# Altium integrated library NSC Switcher.IntLib: 2027 symbols (part 19 of 54)
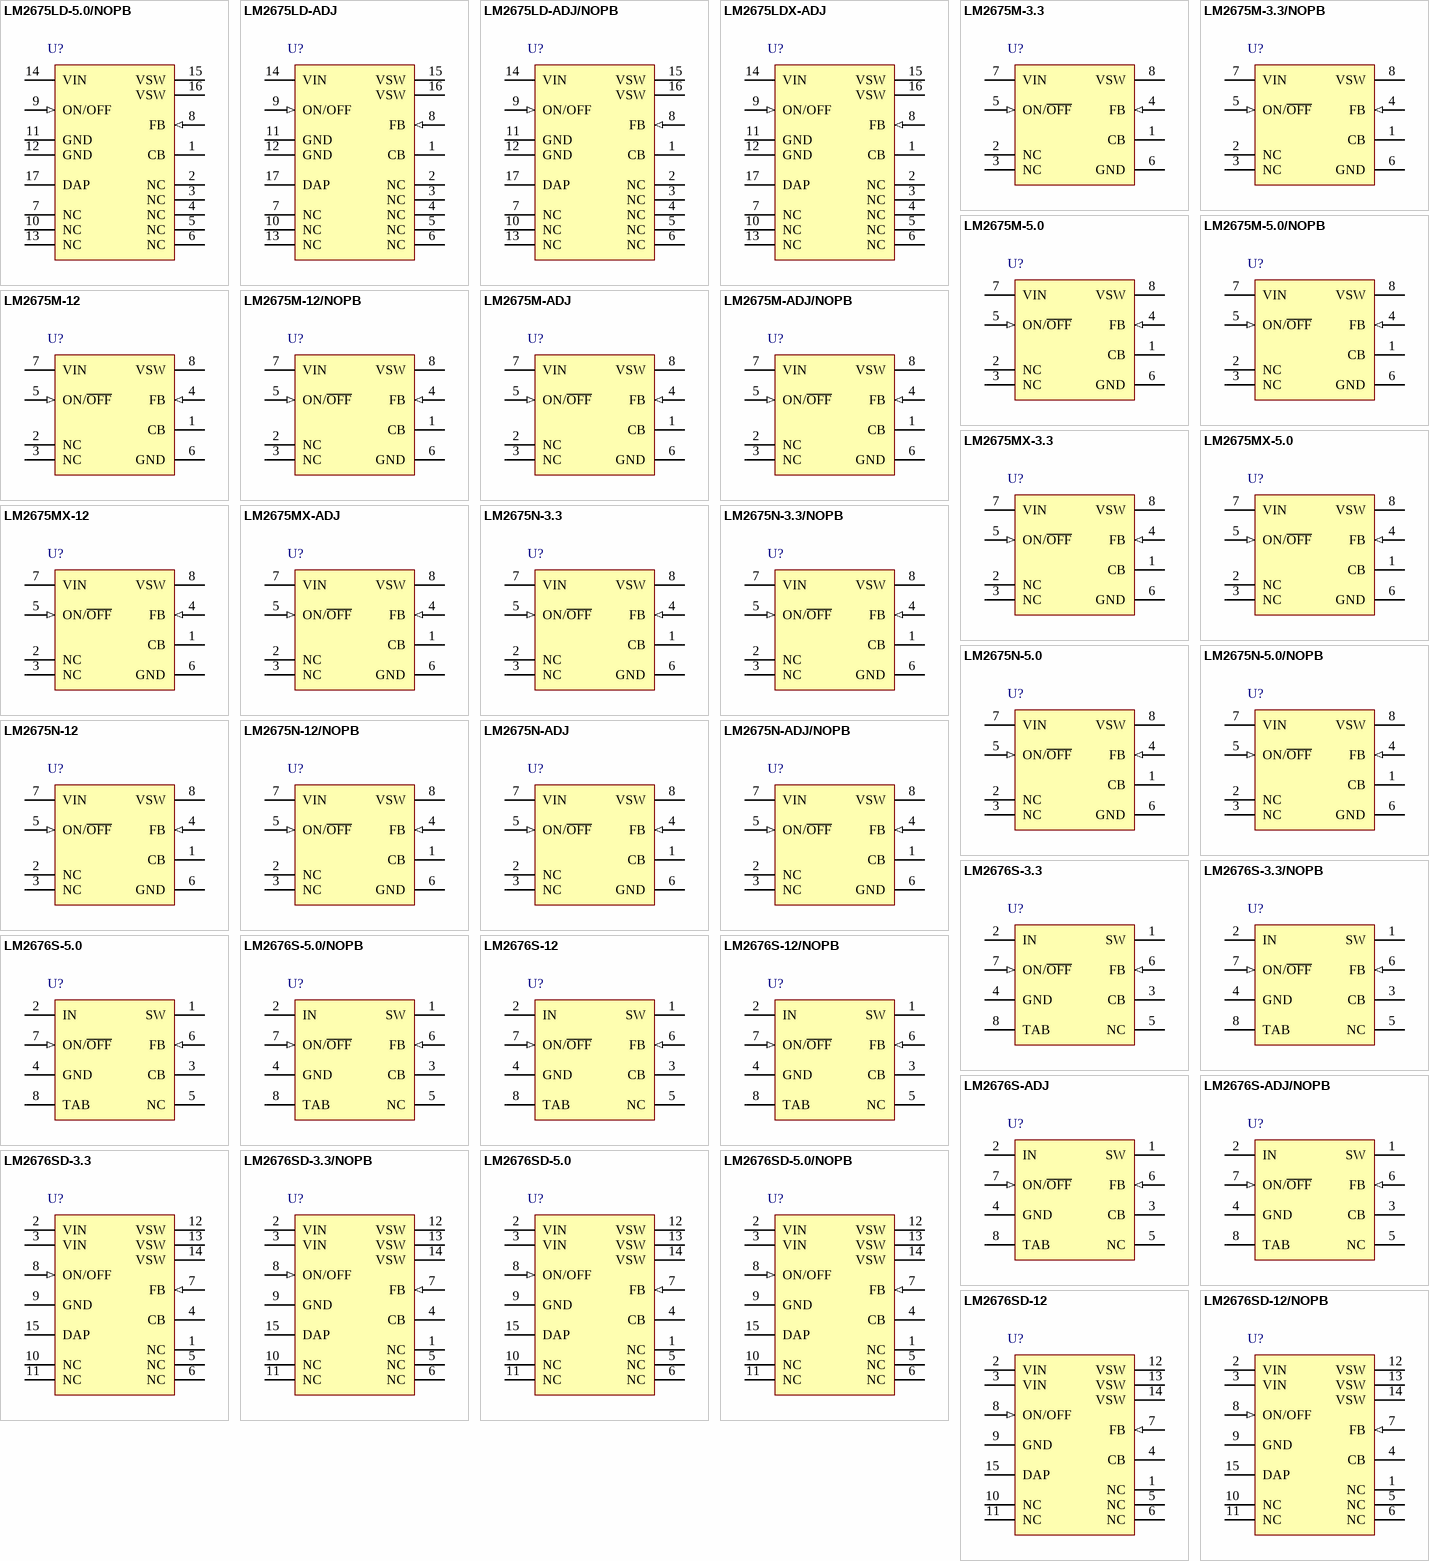
[diagram p81: symbols LM2675LD-5.0/NOPB to LM2676SD-12/NOPB]

## LM2676S-12
designator U?
SIMPLE SWITCHER® High Efficiency 3A Step-Down Voltage Regulator, 7-pin TO-263; PartNumber: LM2676S-12; Manufacturer: National Semiconductor; PackageTopMarking: NSUZXYTTE#*LM2676*S-12; PowerWise: N; Published: 4-Dec-2008; DatasheetVersion: Feb-2008; PackageVersion: revE, Jul-2003; PackageReference: TS7B; Publisher: Altium Limited; PackageDescription: TO-263, Molded, .400 x .390 x .180in Body, 7 Lead, .050in Pitch, Surface Mount; RoHS: N; PinCount: 7; CompType: Switcher; Code_JEDEC: MO-169-AC; ComponentLink1Description: LM2676 Datasheet; ComponentLink1URL: http://www.national.com/ds/LM/LM2676.pdf; ComponentLink2Description: LM2676 Web Page; ComponentLink2URL: http://www.national.com/pf/LM/LM2676.html; ComponentLink3Description: TS7B Package Page; ComponentLink3URL: http://www.national.com/packaging/folders/ts7b.html
footprint TS7B_N (D2-PAK, 8-Leads, Body 8.6x10.2mm, Pitch 1.27mm, Lead Span 14.1mm, IPC Medium Density)
footprint TS7B_L (D2-PAK, 8-Leads, Body 8.6x10.2mm, Pitch 1.27mm, Lead Span 14.1mm, IPC High Density)
footprint TS7B_M (D2-PAK, 8-Leads, Body 8.6x10.2mm, Pitch 1.27mm, Lead Span 14.1mm, IPC Low Density)
pins: 1 SW (power), 2 IN (power), 3 CB, 4 GND (power), 5 NC, 6 FB (in), 7 ON/~{OFF} (in), 8 TAB (power)

## LM2676S-12/NOPB
designator U?
SIMPLE SWITCHER® High Efficiency 3A Step-Down Voltage Regulator, 7-pin TO-263, Pb-Free; PartNumber: LM2676S-12/NOPB; Manufacturer: National Semiconductor; PackageTopMarking: NSUZXYTTE#*LM2676*S-12; PowerWise: N; Published: 1-Mar-2010; DatasheetVersion: Feb-2008; PackageVersion: revE, Jul-2003; PackageReference: TS7B; Publisher: Altium Limited; PackageDescription: TO-263, Molded, .400 x .390 x .180in Body, 7 Lead, .050in Pitch, Surface Mount; Supplier 1: Digi-Key; Supplier Part Number 1: LM2676S-12-ND; Supplier 2: Farnell; Supplier Part Number 2: 1469212; RoHS: Y; PinCount: 7; CompType: Switcher; Code_JEDEC: MO-169-AC; ComponentLink1Description: LM2676 Datasheet; ComponentLink1URL: http://www.national.com/ds/LM/LM2676.pdf; ComponentLink2Description: LM2676 Web Page; ComponentLink2URL: http://www.national.com/pf/LM/LM2676.html; ComponentLink3Description: TS7B Package Page; ComponentLink3URL: http://www.national.com/packaging/folders/ts7b.html
footprint TS7B_N (D2-PAK, 8-Leads, Body 8.6x10.2mm, Pitch 1.27mm, Lead Span 14.1mm, IPC Medium Density)
footprint TS7B_L (D2-PAK, 8-Leads, Body 8.6x10.2mm, Pitch 1.27mm, Lead Span 14.1mm, IPC High Density)
footprint TS7B_M (D2-PAK, 8-Leads, Body 8.6x10.2mm, Pitch 1.27mm, Lead Span 14.1mm, IPC Low Density)
pins: 1 SW (power), 2 IN (power), 3 CB, 4 GND (power), 5 NC, 6 FB (in), 7 ON/~{OFF} (in), 8 TAB (power)

## LM2676S-ADJ
designator U?
SIMPLE SWITCHER® High Efficiency 3A Step-Down Voltage Regulator, 7-pin TO-263; PartNumber: LM2676S-ADJ; Manufacturer: National Semiconductor; PackageTopMarking: NSUZXYTTE#*LM2676*S-ADJ; PowerWise: N; Published: 4-Dec-2008; DatasheetVersion: Feb-2008; PackageVersion: revE, Jul-2003; PackageReference: TS7B; Publisher: Altium Limited; PackageDescription: TO-263, Molded, .400 x .390 x .180in Body, 7 Lead, .050in Pitch, Surface Mount; Supplier 1: Farnell; Supplier Part Number 1: 4550845; RoHS: N; PinCount: 7; CompType: Switcher; Code_JEDEC: MO-169-AC; ComponentLink1Description: LM2676 Datasheet; ComponentLink1URL: http://www.national.com/ds/LM/LM2676.pdf; ComponentLink2Description: LM2676 Web Page; ComponentLink2URL: http://www.national.com/pf/LM/LM2676.html; ComponentLink3Description: TS7B Package Page; ComponentLink3URL: http://www.national.com/packaging/folders/ts7b.html
footprint TS7B_N (D2-PAK, 8-Leads, Body 8.6x10.2mm, Pitch 1.27mm, Lead Span 14.1mm, IPC Medium Density)
footprint TS7B_L (D2-PAK, 8-Leads, Body 8.6x10.2mm, Pitch 1.27mm, Lead Span 14.1mm, IPC High Density)
footprint TS7B_M (D2-PAK, 8-Leads, Body 8.6x10.2mm, Pitch 1.27mm, Lead Span 14.1mm, IPC Low Density)
pins: 1 SW (power), 2 IN (power), 3 CB, 4 GND (power), 5 NC, 6 FB (in), 7 ON/~{OFF} (in), 8 TAB (power)

## LM2676S-ADJ/NOPB
designator U?
SIMPLE SWITCHER® High Efficiency 3A Step-Down Voltage Regulator, 7-pin TO-263, Pb-Free; PartNumber: LM2676S-ADJ/NOPB; Manufacturer: National Semiconductor; PackageTopMarking: NSUZXYTTE#*LM2676*S-ADJ; PowerWise: N; Published: 1-Mar-2010; DatasheetVersion: Feb-2008; PackageVersion: revE, Jul-2003; PackageReference: TS7B; Publisher: Altium Limited; PackageDescription: TO-263, Molded, .400 x .390 x .180in Body, 7 Lead, .050in Pitch, Surface Mount; Supplier 1: Digi-Key; Supplier Part Number 1: LM2676S-ADJ-ND; Supplier 2: Farnell; Supplier Part Number 2: 1469211; RoHS: Y; PinCount: 7; CompType: Switcher; Code_JEDEC: MO-169-AC; ComponentLink1Description: LM2676 Datasheet; ComponentLink1URL: http://www.national.com/ds/LM/LM2676.pdf; ComponentLink2Description: LM2676 Web Page; ComponentLink2URL: http://www.national.com/pf/LM/LM2676.html; ComponentLink3Description: TS7B Package Page; ComponentLink3URL: http://www.national.com/packaging/folders/ts7b.html
footprint TS7B_N (D2-PAK, 8-Leads, Body 8.6x10.2mm, Pitch 1.27mm, Lead Span 14.1mm, IPC Medium Density)
footprint TS7B_L (D2-PAK, 8-Leads, Body 8.6x10.2mm, Pitch 1.27mm, Lead Span 14.1mm, IPC High Density)
footprint TS7B_M (D2-PAK, 8-Leads, Body 8.6x10.2mm, Pitch 1.27mm, Lead Span 14.1mm, IPC Low Density)
pins: 1 SW (power), 2 IN (power), 3 CB, 4 GND (power), 5 NC, 6 FB (in), 7 ON/~{OFF} (in), 8 TAB (power)

## LM2676SD-3.3
designator U?
SIMPLE SWITCHER® High Efficiency 3A Step-Down Voltage Regulator, 14-pin LLP; PartNumber: LM2676SD-3.3; Manufacturer: National Semiconductor; PackageTopMarking: NS*UZXYTT*S0003NB; PowerWise: N; Published: 4-Dec-2008; DatasheetVersion: Feb-2008; PackageVersion: revA, Jul-2003; PackageReference: SRC14A; Publisher: Altium Limited; PackageDescription: LLP, Plastic, Dual, 6 x 5 x 1mm Body, 14 Lead, 0.8mm Pitch, No Pullback; RoHS: N; PinCount: 14; CompType: Switcher; ComponentLink1Description: LM2676 Datasheet; ComponentLink1URL: http://www.national.com/ds/LM/LM2676.pdf; ComponentLink2Description: LM2676 Web Page; ComponentLink2URL: http://www.national.com/pf/LM/LM2676.html; ComponentLink3Description: SRC14A Package Page; ComponentLink3URL: http://www.national.com/packaging/folders/src14a.html
footprint SRC14A (SON, 14-Leads, Body 6x5 mm, Pitch 0.8mm, NSC Recommended)
pins: 1 NC, 2 VIN (power), 3 VIN (power), 4 CB, 5 NC, 6 NC, 7 FB (in), 8 ON/OFF (in), 9 GND (power), 10 NC, 11 NC, 12 VSW (power), 13 VSW (power), 14 VSW (power), 15 DAP

## LM2676SD-3.3/NOPB
designator U?
SIMPLE SWITCHER® High Efficiency 3A Step-Down Voltage Regulator, 14-pin LLP, Pb-Free; PartNumber: LM2676SD-3.3/NOPB; Manufacturer: National Semiconductor; PackageTopMarking: NS*UZXYTT*S0003NB; PowerWise: N; Published: 1-Mar-2010; DatasheetVersion: Feb-2008; PackageVersion: revA, Jul-2003; PackageReference: SRC14A; Publisher: Altium Limited; PackageDescription: LLP, Plastic, Dual, 6 x 5 x 1mm Body, 14 Lead, 0.8mm Pitch, No Pullback; Supplier 1: Digi-Key; Supplier Part Number 1: LM2676SD-3.3TR-ND; Supplier 2: Digi-Key; Supplier Part Number 2: LM2676SD-3.3CT-ND; Supplier 3: Digi-Key; Supplier Part Number 3: LM2676SD-3.3DKR-ND; RoHS: Y; PinCount: 14; CompType: Switcher; ComponentLink1Description: LM2676 Datasheet; ComponentLink1URL: http://www.national.com/ds/LM/LM2676.pdf; ComponentLink2Description: LM2676 Web Page; ComponentLink2URL: http://www.national.com/pf/LM/LM2676.html; ComponentLink3Description: SRC14A Package Page; ComponentLink3URL: http://www.national.com/packaging/folders/src14a.html
footprint SRC14A (SON, 14-Leads, Body 6x5 mm, Pitch 0.8mm, NSC Recommended)
pins: 1 NC, 2 VIN (power), 3 VIN (power), 4 CB, 5 NC, 6 NC, 7 FB (in), 8 ON/OFF (in), 9 GND (power), 10 NC, 11 NC, 12 VSW (power), 13 VSW (power), 14 VSW (power), 15 DAP

## LM2676SD-5.0
designator U?
SIMPLE SWITCHER® High Efficiency 3A Step-Down Voltage Regulator, 14-pin LLP; PartNumber: LM2676SD-5.0; Manufacturer: National Semiconductor; PackageTopMarking: NS*UZXYTT*S0003PB; PowerWise: N; Published: 4-Dec-2008; DatasheetVersion: Feb-2008; PackageVersion: revA, Jul-2003; PackageReference: SRC14A; Publisher: Altium Limited; PackageDescription: LLP, Plastic, Dual, 6 x 5 x 1mm Body, 14 Lead, 0.8mm Pitch, No Pullback; Supplier 1: Farnell; Supplier Part Number 1: 1495084; RoHS: N; PinCount: 14; CompType: Switcher; ComponentLink1Description: LM2676 Datasheet; ComponentLink1URL: http://www.national.com/ds/LM/LM2676.pdf; ComponentLink2Description: LM2676 Web Page; ComponentLink2URL: http://www.national.com/pf/LM/LM2676.html; ComponentLink3Description: SRC14A Package Page; ComponentLink3URL: http://www.national.com/packaging/folders/src14a.html
footprint SRC14A (SON, 14-Leads, Body 6x5 mm, Pitch 0.8mm, NSC Recommended)
pins: 1 NC, 2 VIN (power), 3 VIN (power), 4 CB, 5 NC, 6 NC, 7 FB (in), 8 ON/OFF (in), 9 GND (power), 10 NC, 11 NC, 12 VSW (power), 13 VSW (power), 14 VSW (power), 15 DAP

## LM2676SD-5.0/NOPB
designator U?
SIMPLE SWITCHER® High Efficiency 3A Step-Down Voltage Regulator, 14-pin LLP, Pb-Free; PartNumber: LM2676SD-5.0/NOPB; Manufacturer: National Semiconductor; PackageTopMarking: NS*UZXYTT*S0003PB; PowerWise: N; Published: 1-Mar-2010; DatasheetVersion: Feb-2008; PackageVersion: revA, Jul-2003; PackageReference: SRC14A; Publisher: Altium Limited; PackageDescription: LLP, Plastic, Dual, 6 x 5 x 1mm Body, 14 Lead, 0.8mm Pitch, No Pullback; Supplier 1: Digi-Key; Supplier Part Number 1: LM2676SD-5.0TR-ND; Supplier 2: Digi-Key; Supplier Part Number 2: LM2676SD-5.0CT-ND; Supplier 3: Digi-Key; Supplier Part Number 3: LM2676SD-5.0DKR-ND; Supplier 4: Farnell; Supplier Part Number 4: 1559405; RoHS: Y; PinCount: 14; CompType: Switcher; ComponentLink1Description: LM2676 Datasheet; ComponentLink1URL: http://www.national.com/ds/LM/LM2676.pdf; ComponentLink2Description: LM2676 Web Page; ComponentLink2URL: http://www.national.com/pf/LM/LM2676.html; ComponentLink3Description: SRC14A Package Page; ComponentLink3URL: http://www.national.com/packaging/folders/src14a.html
footprint SRC14A (SON, 14-Leads, Body 6x5 mm, Pitch 0.8mm, NSC Recommended)
pins: 1 NC, 2 VIN (power), 3 VIN (power), 4 CB, 5 NC, 6 NC, 7 FB (in), 8 ON/OFF (in), 9 GND (power), 10 NC, 11 NC, 12 VSW (power), 13 VSW (power), 14 VSW (power), 15 DAP

## LM2676SD-12
designator U?
SIMPLE SWITCHER® High Efficiency 3A Step-Down Voltage Regulator, 14-pin LLP; PartNumber: LM2676SD-12; Manufacturer: National Semiconductor; PackageTopMarking: NS*UZXYTT*S0003LB; PowerWise: N; Published: 4-Dec-2008; DatasheetVersion: Feb-2008; PackageVersion: revA, Jul-2003; PackageReference: SRC14A; Publisher: Altium Limited; PackageDescription: LLP, Plastic, Dual, 6 x 5 x 1mm Body, 14 Lead, 0.8mm Pitch, No Pullback; RoHS: N; PinCount: 14; CompType: Switcher; ComponentLink1Description: LM2676 Datasheet; ComponentLink1URL: http://www.national.com/ds/LM/LM2676.pdf; ComponentLink2Description: LM2676 Web Page; ComponentLink2URL: http://www.national.com/pf/LM/LM2676.html; ComponentLink3Description: SRC14A Package Page; ComponentLink3URL: http://www.national.com/packaging/folders/src14a.html
footprint SRC14A (SON, 14-Leads, Body 6x5 mm, Pitch 0.8mm, NSC Recommended)
pins: 1 NC, 2 VIN (power), 3 VIN (power), 4 CB, 5 NC, 6 NC, 7 FB (in), 8 ON/OFF (in), 9 GND (power), 10 NC, 11 NC, 12 VSW (power), 13 VSW (power), 14 VSW (power), 15 DAP

## LM2676SD-12/NOPB
designator U?
SIMPLE SWITCHER® High Efficiency 3A Step-Down Voltage Regulator, 14-pin LLP, Pb-Free; PartNumber: LM2676SD-12/NOPB; Manufacturer: National Semiconductor; PackageTopMarking: NS*UZXYTT*S0003LB; PowerWise: N; Published: 1-Mar-2010; DatasheetVersion: Feb-2008; PackageVersion: revA, Jul-2003; PackageReference: SRC14A; Publisher: Altium Limited; PackageDescription: LLP, Plastic, Dual, 6 x 5 x 1mm Body, 14 Lead, 0.8mm Pitch, No Pullback; Supplier 1: Digi-Key; Supplier Part Number 1: LM2676SD-12TR-ND; Supplier 2: Digi-Key; Supplier Part Number 2: LM2676SD-12CT-ND; Supplier 3: Digi-Key; Supplier Part Number 3: LM2676SD-12DKR-ND; RoHS: Y; PinCount: 14; CompType: Switcher; ComponentLink1Description: LM2676 Datasheet; ComponentLink1URL: http://www.national.com/ds/LM/LM2676.pdf; ComponentLink2Description: LM2676 Web Page; ComponentLink2URL: http://www.national.com/pf/LM/LM2676.html; ComponentLink3Description: SRC14A Package Page; ComponentLink3URL: http://www.national.com/packaging/folders/src14a.html
footprint SRC14A (SON, 14-Leads, Body 6x5 mm, Pitch 0.8mm, NSC Recommended)
pins: 1 NC, 2 VIN (power), 3 VIN (power), 4 CB, 5 NC, 6 NC, 7 FB (in), 8 ON/OFF (in), 9 GND (power), 10 NC, 11 NC, 12 VSW (power), 13 VSW (power), 14 VSW (power), 15 DAP

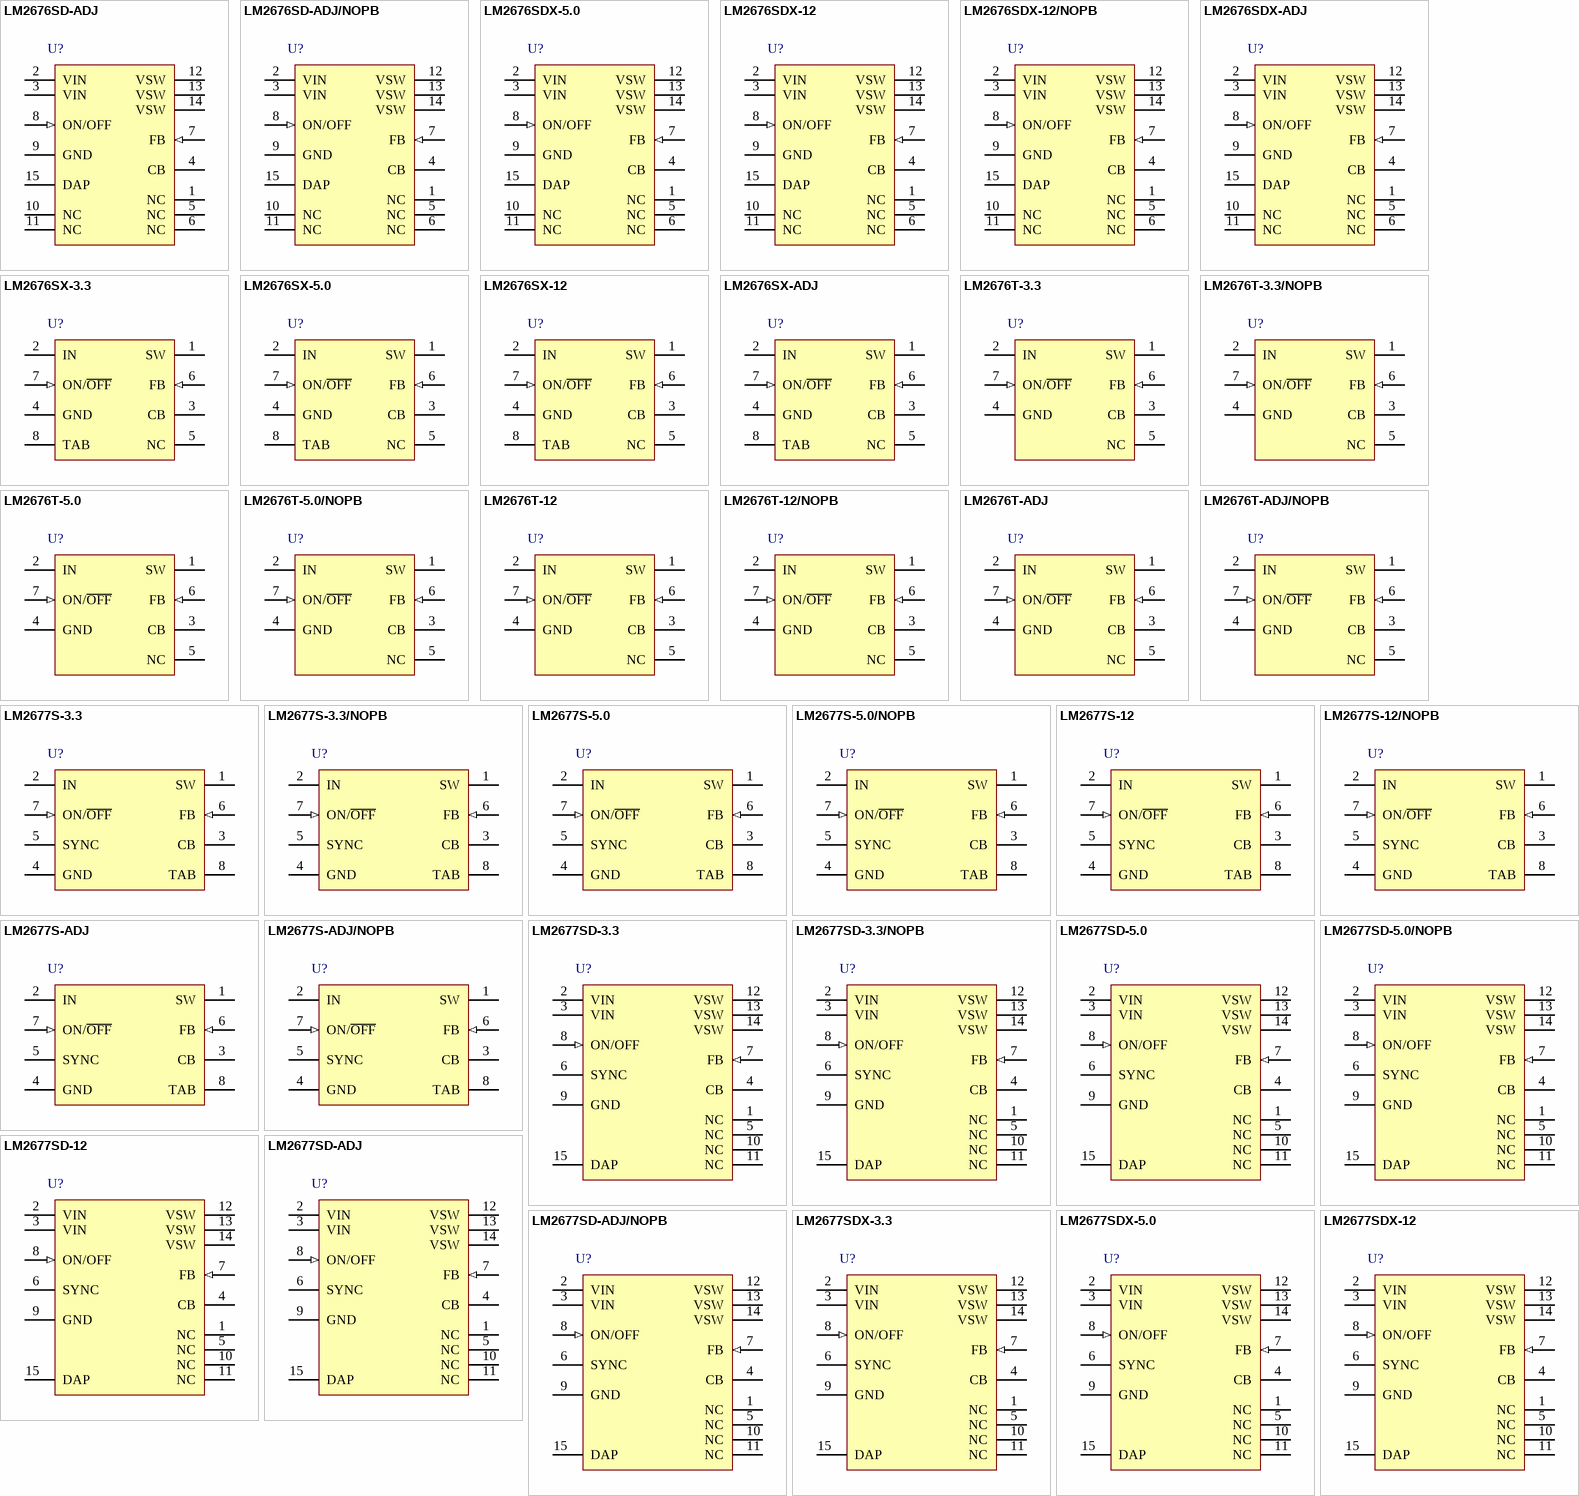
[diagram p20: symbols LM2676SD-ADJ to LM2677SDX-12]

## LM2676SD-ADJ
designator U?
SIMPLE SWITCHER® High Efficiency 3A Step-Down Voltage Regulator, 14-pin LLP; PartNumber: LM2676SD-ADJ; Manufacturer: National Semiconductor; PackageTopMarking: NS*UZXYTT*S0003RB; PowerWise: N; Published: 4-Dec-2008; DatasheetVersion: Feb-2008; PackageVersion: revA, Jul-2003; PackageReference: SRC14A; Publisher: Altium Limited; PackageDescription: LLP, Plastic, Dual, 6 x 5 x 1mm Body, 14 Lead, 0.8mm Pitch, No Pullback; RoHS: N; PinCount: 14; CompType: Switcher; ComponentLink1Description: LM2676 Datasheet; ComponentLink1URL: http://www.national.com/ds/LM/LM2676.pdf; ComponentLink2Description: LM2676 Web Page; ComponentLink2URL: http://www.national.com/pf/LM/LM2676.html; ComponentLink3Description: SRC14A Package Page; ComponentLink3URL: http://www.national.com/packaging/folders/src14a.html
footprint SRC14A (SON, 14-Leads, Body 6x5 mm, Pitch 0.8mm, NSC Recommended)
pins: 1 NC, 2 VIN (power), 3 VIN (power), 4 CB, 5 NC, 6 NC, 7 FB (in), 8 ON/OFF (in), 9 GND (power), 10 NC, 11 NC, 12 VSW (power), 13 VSW (power), 14 VSW (power), 15 DAP

## LM2676SD-ADJ/NOPB
designator U?
SIMPLE SWITCHER® High Efficiency 3A Step-Down Voltage Regulator, 14-pin LLP, Pb-Free; PartNumber: LM2676SD-ADJ/NOPB; Manufacturer: National Semiconductor; PackageTopMarking: NS*UZXYTT*S0003RB; PowerWise: N; Published: 1-Mar-2010; DatasheetVersion: Feb-2008; PackageVersion: revA, Jul-2003; PackageReference: SRC14A; Publisher: Altium Limited; PackageDescription: LLP, Plastic, Dual, 6 x 5 x 1mm Body, 14 Lead, 0.8mm Pitch, No Pullback; Supplier 1: Digi-Key; Supplier Part Number 1: LM2676SD-ADJTR-ND; Supplier 2: Digi-Key; Supplier Part Number 2: LM2676SD-ADJCT-ND; Supplier 3: Digi-Key; Supplier Part Number 3: LM2676SD-ADJDKR-ND; Supplier 4: Farnell; Supplier Part Number 4: 1685541; RoHS: Y; PinCount: 14; CompType: Switcher; ComponentLink1Description: LM2676 Datasheet; ComponentLink1URL: http://www.national.com/ds/LM/LM2676.pdf; ComponentLink2Description: LM2676 Web Page; ComponentLink2URL: http://www.national.com/pf/LM/LM2676.html; ComponentLink3Description: SRC14A Package Page; ComponentLink3URL: http://www.national.com/packaging/folders/src14a.html
footprint SRC14A (SON, 14-Leads, Body 6x5 mm, Pitch 0.8mm, NSC Recommended)
pins: 1 NC, 2 VIN (power), 3 VIN (power), 4 CB, 5 NC, 6 NC, 7 FB (in), 8 ON/OFF (in), 9 GND (power), 10 NC, 11 NC, 12 VSW (power), 13 VSW (power), 14 VSW (power), 15 DAP

## LM2676SDX-5.0
designator U?
SIMPLE SWITCHER® High Efficiency 3A Step-Down Voltage Regulator, 14-pin LLP; PartNumber: LM2676SDX-5.0; Manufacturer: National Semiconductor; PackageTopMarking: NS*UZXYTT*S0003PB; PowerWise: N; Published: 1-Mar-2010; DatasheetVersion: Feb-2008; PackageVersion: revA, Jul-2003; PackageReference: SRC14A; Publisher: Altium Limited; PackageDescription: LLP, Plastic, Dual, 6 x 5 x 1mm Body, 14 Lead, 0.8mm Pitch, No Pullback; RoHS: N; PinCount: 14; CompType: Switcher; ComponentLink1Description: LM2676 Datasheet; ComponentLink1URL: http://www.national.com/ds/LM/LM2676.pdf; ComponentLink2Description: LM2676 Web Page; ComponentLink2URL: http://www.national.com/pf/LM/LM2676.html; ComponentLink3Description: SRC14A Package Page; ComponentLink3URL: http://www.national.com/packaging/folders/src14a.html
footprint SRC14A (SON, 14-Leads, Body 6x5 mm, Pitch 0.8mm, NSC Recommended)
pins: 1 NC, 2 VIN (power), 3 VIN (power), 4 CB, 5 NC, 6 NC, 7 FB (in), 8 ON/OFF (in), 9 GND (power), 10 NC, 11 NC, 12 VSW (power), 13 VSW (power), 14 VSW (power), 15 DAP

## LM2676SDX-12
designator U?
SIMPLE SWITCHER® High Efficiency 3A Step-Down Voltage Regulator, 14-pin LLP; PartNumber: LM2676SDX-12; Manufacturer: National Semiconductor; PackageTopMarking: NS*UZXYTT*S0003LB; PowerWise: N; Published: 1-Mar-2010; DatasheetVersion: Feb-2008; PackageVersion: revA, Jul-2003; PackageReference: SRC14A; Publisher: Altium Limited; PackageDescription: LLP, Plastic, Dual, 6 x 5 x 1mm Body, 14 Lead, 0.8mm Pitch, No Pullback; RoHS: N; PinCount: 14; CompType: Switcher; ComponentLink1Description: LM2676 Datasheet; ComponentLink1URL: http://www.national.com/ds/LM/LM2676.pdf; ComponentLink2Description: LM2676 Web Page; ComponentLink2URL: http://www.national.com/pf/LM/LM2676.html; ComponentLink3Description: SRC14A Package Page; ComponentLink3URL: http://www.national.com/packaging/folders/src14a.html
footprint SRC14A (SON, 14-Leads, Body 6x5 mm, Pitch 0.8mm, NSC Recommended)
pins: 1 NC, 2 VIN (power), 3 VIN (power), 4 CB, 5 NC, 6 NC, 7 FB (in), 8 ON/OFF (in), 9 GND (power), 10 NC, 11 NC, 12 VSW (power), 13 VSW (power), 14 VSW (power), 15 DAP

## LM2676SDX-12/NOPB
designator U?
SIMPLE SWITCHER High Efficiency 3A Step-Down Voltage Regulator, 14 pin LLP; PartNumber: LM2676SDX-12/NOPB; Manufacturer: National Semiconductor; PackageTopMarking: NS*UZXYTT*S0003LB; PowerWise: N; Published: 16-Nov-2010; DatasheetVersion: Feb-2008; PackageVersion: revA, Jul-2003; PackageReference: SRC14A; Publisher: Altium Limited; PackageDescription: LLP, Plastic, Dual, 6 x 5 x 1mm Body, 14 Lead, 0.8mm Pitch, No Pullback; Supplier 1: Digi-Key; Supplier Part Number 1: LM2676SDX-12-ND; RoHS: Y; PinCount: 14; CompType: Switcher; ComponentLink1Description: LM2676 Datasheet; ComponentLink1URL: http://www.national.com/ds/LM/LM2676.pdf; ComponentLink2Description: LM2676 Web Page; ComponentLink2URL: http://www.national.com/pf/LM/LM2676.html; ComponentLink3Description: SRC14A Package Page; ComponentLink3URL: http://www.national.com/packaging/folders/src14a.html
footprint SRC14A (SON, 14-Leads, Body 6x5 mm, Pitch 0.8mm, NSC Recommended)
pins: 1 NC, 2 VIN (power), 3 VIN (power), 4 CB, 5 NC, 6 NC, 7 FB (in), 8 ON/OFF (in), 9 GND (power), 10 NC, 11 NC, 12 VSW (power), 13 VSW (power), 14 VSW (power), 15 DAP

## LM2676SDX-ADJ
designator U?
SIMPLE SWITCHER® High Efficiency 3A Step-Down Voltage Regulator, 14-pin LLP; PartNumber: LM2676SDX-ADJ; Manufacturer: National Semiconductor; PackageTopMarking: NS*UZXYTT*S0003RB; PowerWise: N; Published: 1-Mar-2010; DatasheetVersion: Feb-2008; PackageVersion: revA, Jul-2003; PackageReference: SRC14A; Publisher: Altium Limited; PackageDescription: LLP, Plastic, Dual, 6 x 5 x 1mm Body, 14 Lead, 0.8mm Pitch, No Pullback; RoHS: N; PinCount: 14; CompType: Switcher; ComponentLink1Description: LM2676 Datasheet; ComponentLink1URL: http://www.national.com/ds/LM/LM2676.pdf; ComponentLink2Description: LM2676 Web Page; ComponentLink2URL: http://www.national.com/pf/LM/LM2676.html; ComponentLink3Description: SRC14A Package Page; ComponentLink3URL: http://www.national.com/packaging/folders/src14a.html
footprint SRC14A (SON, 14-Leads, Body 6x5 mm, Pitch 0.8mm, NSC Recommended)
pins: 1 NC, 2 VIN (power), 3 VIN (power), 4 CB, 5 NC, 6 NC, 7 FB (in), 8 ON/OFF (in), 9 GND (power), 10 NC, 11 NC, 12 VSW (power), 13 VSW (power), 14 VSW (power), 15 DAP

## LM2676SX-3.3
designator U?
SIMPLE SWITCHER® High Efficiency 3A Step-Down Voltage Regulator, 7-pin TO-263; PartNumber: LM2676SX-3.3; Manufacturer: National Semiconductor; PackageTopMarking: NSUZXYTTE#*LM2676*S-3.3; PowerWise: N; Published: 1-Mar-2010; DatasheetVersion: Feb-2008; PackageVersion: revE, Jul-2003; PackageReference: TS7B; Publisher: Altium Limited; PackageDescription: TO-263, Molded, .400 x .390 x .180in Body, 7 Lead, .050in Pitch, Surface Mount; RoHS: N; PinCount: 7; CompType: Switcher; Code_JEDEC: MO-169-AC; ComponentLink1Description: LM2676 Datasheet; ComponentLink1URL: http://www.national.com/ds/LM/LM2676.pdf; ComponentLink2Description: LM2676 Web Page; ComponentLink2URL: http://www.national.com/pf/LM/LM2676.html; ComponentLink3Description: TS7B Package Page; ComponentLink3URL: http://www.national.com/packaging/folders/ts7b.html
footprint TS7B_N (D2-PAK, 8-Leads, Body 8.6x10.2mm, Pitch 1.27mm, Lead Span 14.1mm, IPC Medium Density)
footprint TS7B_L (D2-PAK, 8-Leads, Body 8.6x10.2mm, Pitch 1.27mm, Lead Span 14.1mm, IPC High Density)
footprint TS7B_M (D2-PAK, 8-Leads, Body 8.6x10.2mm, Pitch 1.27mm, Lead Span 14.1mm, IPC Low Density)
pins: 1 SW (power), 2 IN (power), 3 CB, 4 GND (power), 5 NC, 6 FB (in), 7 ON/~{OFF} (in), 8 TAB (power)

## LM2676SX-5.0
designator U?
SIMPLE SWITCHER® High Efficiency 3A Step-Down Voltage Regulator, 7-pin TO-263; PartNumber: LM2676SX-5.0; Manufacturer: National Semiconductor; PackageTopMarking: NSUZXYTTE#*LM2676*S-5.0; PowerWise: N; Published: 1-Mar-2010; DatasheetVersion: Feb-2008; PackageVersion: revE, Jul-2003; PackageReference: TS7B; Publisher: Altium Limited; PackageDescription: TO-263, Molded, .400 x .390 x .180in Body, 7 Lead, .050in Pitch, Surface Mount; RoHS: N; PinCount: 7; CompType: Switcher; Code_JEDEC: MO-169-AC; ComponentLink1Description: LM2676 Datasheet; ComponentLink1URL: http://www.national.com/ds/LM/LM2676.pdf; ComponentLink2Description: LM2676 Web Page; ComponentLink2URL: http://www.national.com/pf/LM/LM2676.html; ComponentLink3Description: TS7B Package Page; ComponentLink3URL: http://www.national.com/packaging/folders/ts7b.html
footprint TS7B_N (D2-PAK, 8-Leads, Body 8.6x10.2mm, Pitch 1.27mm, Lead Span 14.1mm, IPC Medium Density)
footprint TS7B_L (D2-PAK, 8-Leads, Body 8.6x10.2mm, Pitch 1.27mm, Lead Span 14.1mm, IPC High Density)
footprint TS7B_M (D2-PAK, 8-Leads, Body 8.6x10.2mm, Pitch 1.27mm, Lead Span 14.1mm, IPC Low Density)
pins: 1 SW (power), 2 IN (power), 3 CB, 4 GND (power), 5 NC, 6 FB (in), 7 ON/~{OFF} (in), 8 TAB (power)

## LM2676SX-12
designator U?
SIMPLE SWITCHER® High Efficiency 3A Step-Down Voltage Regulator, 7-pin TO-263; PartNumber: LM2676SX-12; Manufacturer: National Semiconductor; PackageTopMarking: NSUZXYTTE#*LM2676*S-12; PowerWise: N; Published: 1-Mar-2010; DatasheetVersion: Feb-2008; PackageVersion: revE, Jul-2003; PackageReference: TS7B; Publisher: Altium Limited; PackageDescription: TO-263, Molded, .400 x .390 x .180in Body, 7 Lead, .050in Pitch, Surface Mount; RoHS: N; PinCount: 7; CompType: Switcher; Code_JEDEC: MO-169-AC; ComponentLink1Description: LM2676 Datasheet; ComponentLink1URL: http://www.national.com/ds/LM/LM2676.pdf; ComponentLink2Description: LM2676 Web Page; ComponentLink2URL: http://www.national.com/pf/LM/LM2676.html; ComponentLink3Description: TS7B Package Page; ComponentLink3URL: http://www.national.com/packaging/folders/ts7b.html
footprint TS7B_N (D2-PAK, 8-Leads, Body 8.6x10.2mm, Pitch 1.27mm, Lead Span 14.1mm, IPC Medium Density)
footprint TS7B_L (D2-PAK, 8-Leads, Body 8.6x10.2mm, Pitch 1.27mm, Lead Span 14.1mm, IPC High Density)
footprint TS7B_M (D2-PAK, 8-Leads, Body 8.6x10.2mm, Pitch 1.27mm, Lead Span 14.1mm, IPC Low Density)
pins: 1 SW (power), 2 IN (power), 3 CB, 4 GND (power), 5 NC, 6 FB (in), 7 ON/~{OFF} (in), 8 TAB (power)

## LM2676SX-ADJ
designator U?
SIMPLE SWITCHER® High Efficiency 3A Step-Down Voltage Regulator, 7-pin TO-263; PartNumber: LM2676SX-ADJ; Manufacturer: National Semiconductor; PackageTopMarking: NSUZXYTTE#*LM2676*S-ADJ; PowerWise: N; Published: 1-Mar-2010; DatasheetVersion: Feb-2008; PackageVersion: revE, Jul-2003; PackageReference: TS7B; Publisher: Altium Limited; PackageDescription: TO-263, Molded, .400 x .390 x .180in Body, 7 Lead, .050in Pitch, Surface Mount; RoHS: N; PinCount: 7; CompType: Switcher; Code_JEDEC: MO-169-AC; ComponentLink1Description: LM2676 Datasheet; ComponentLink1URL: http://www.national.com/ds/LM/LM2676.pdf; ComponentLink2Description: LM2676 Web Page; ComponentLink2URL: http://www.national.com/pf/LM/LM2676.html; ComponentLink3Description: TS7B Package Page; ComponentLink3URL: http://www.national.com/packaging/folders/ts7b.html
footprint TS7B_N (D2-PAK, 8-Leads, Body 8.6x10.2mm, Pitch 1.27mm, Lead Span 14.1mm, IPC Medium Density)
footprint TS7B_L (D2-PAK, 8-Leads, Body 8.6x10.2mm, Pitch 1.27mm, Lead Span 14.1mm, IPC High Density)
footprint TS7B_M (D2-PAK, 8-Leads, Body 8.6x10.2mm, Pitch 1.27mm, Lead Span 14.1mm, IPC Low Density)
pins: 1 SW (power), 2 IN (power), 3 CB, 4 GND (power), 5 NC, 6 FB (in), 7 ON/~{OFF} (in), 8 TAB (power)

## LM2676T-3.3
designator U?
SIMPLE SWITCHER® High Efficiency 3A Step-Down Voltage Regulator, 7-pin TO-220; PartNumber: LM2676T-3.3; Manufacturer: National Semiconductor; PackageTopMarking: NSUZXYTTE#*LM2676*T-3.3; PowerWise: N; Published: 4-Dec-2008; DatasheetVersion: Feb-2008; PackageVersion: revC, Apr-1999; PackageReference: TA07B; Publisher: Altium Limited; PackageDescription: TO-220, Molded, .400 x .590 x .180in Body, 7 Lead, .050in Pitch, Staggered; RoHS: N; PinCount: 7; CompType: Switcher; Code_JEDEC: TO-220-AB; ComponentLink1Description: LM2676 Datasheet; ComponentLink1URL: http://www.national.com/ds/LM/LM2676.pdf; ComponentLink2Description: LM2676 Web Page; ComponentLink2URL: http://www.national.com/pf/LM/LM2676.html; ComponentLink3Description: TA07B Package Page; ComponentLink3URL: http://www.national.com/packaging/folders/ta07b.html
footprint TA07B (TO, Thru-Hole, Vertical, Heatsink Mounted; 7 Bent Staggered Leads; Body 10.2x8.7x4.6mm, Pitch 1.27 mm)
pins: 1 SW (power), 2 IN (power), 3 CB, 4 GND (power), 5 NC, 6 FB (in), 7 ON/~{OFF} (in)

## LM2676T-3.3/NOPB
designator U?
SIMPLE SWITCHER® High Efficiency 3A Step-Down Voltage Regulator, 7-pin TO-220, Pb-Free; PartNumber: LM2676T-3.3/NOPB; Manufacturer: National Semiconductor; PackageTopMarking: NSUZXYTTE#*LM2676*T-3.3; PowerWise: N; Published: 1-Mar-2010; DatasheetVersion: Feb-2008; PackageVersion: revC, Apr-1999; PackageReference: TA07B; Publisher: Altium Limited; PackageDescription: TO-220, Molded, .400 x .590 x .180in Body, 7 Lead, .050in Pitch, Staggered; Supplier 1: Digi-Key; Supplier Part Number 1: LM2676T-3.3-ND; RoHS: Y; PinCount: 7; CompType: Switcher; Code_JEDEC: TO-220-AB; ComponentLink1Description: LM2676 Datasheet; ComponentLink1URL: http://www.national.com/ds/LM/LM2676.pdf; ComponentLink2Description: LM2676 Web Page; ComponentLink2URL: http://www.national.com/pf/LM/LM2676.html; ComponentLink3Description: TA07B Package Page; ComponentLink3URL: http://www.national.com/packaging/folders/ta07b.html
footprint TA07B (TO, Thru-Hole, Vertical, Heatsink Mounted; 7 Bent Staggered Leads; Body 10.2x8.7x4.6mm, Pitch 1.27 mm)
pins: 1 SW (power), 2 IN (power), 3 CB, 4 GND (power), 5 NC, 6 FB (in), 7 ON/~{OFF} (in)

## LM2676T-5.0
designator U?
SIMPLE SWITCHER® High Efficiency 3A Step-Down Voltage Regulator, 7-pin TO-220; PartNumber: LM2676T-5.0; Manufacturer: National Semiconductor; PackageTopMarking: NSUZXYTTE#*LM2676*T-5.0; PowerWise: N; Published: 4-Dec-2008; DatasheetVersion: Feb-2008; PackageVersion: revC, Apr-1999; PackageReference: TA07B; Publisher: Altium Limited; PackageDescription: TO-220, Molded, .400 x .590 x .180in Body, 7 Lead, .050in Pitch, Staggered; Supplier 1: Farnell; Supplier Part Number 1: 9485775; RoHS: N; PinCount: 7; CompType: Switcher; Code_JEDEC: TO-220-AB; ComponentLink1Description: LM2676 Datasheet; ComponentLink1URL: http://www.national.com/ds/LM/LM2676.pdf; ComponentLink2Description: LM2676 Web Page; ComponentLink2URL: http://www.national.com/pf/LM/LM2676.html; ComponentLink3Description: TA07B Package Page; ComponentLink3URL: http://www.national.com/packaging/folders/ta07b.html
footprint TA07B (TO, Thru-Hole, Vertical, Heatsink Mounted; 7 Bent Staggered Leads; Body 10.2x8.7x4.6mm, Pitch 1.27 mm)
pins: 1 SW (power), 2 IN (power), 3 CB, 4 GND (power), 5 NC, 6 FB (in), 7 ON/~{OFF} (in)

## LM2676T-5.0/NOPB
designator U?
SIMPLE SWITCHER® High Efficiency 3A Step-Down Voltage Regulator, 7-pin TO-220, Pb-Free; PartNumber: LM2676T-5.0/NOPB; Manufacturer: National Semiconductor; PackageTopMarking: NSUZXYTTE#*LM2676*T-5.0; PowerWise: N; Published: 1-Mar-2010; DatasheetVersion: Feb-2008; PackageVersion: revC, Apr-1999; PackageReference: TA07B; Publisher: Altium Limited; PackageDescription: TO-220, Molded, .400 x .590 x .180in Body, 7 Lead, .050in Pitch, Staggered; Supplier 1: Digi-Key; Supplier Part Number 1: LM2676T-5.0-ND; Supplier 2: Farnell; Supplier Part Number 2: 1427551; RoHS: Y; PinCount: 7; CompType: Switcher; Code_JEDEC: TO-220-AB; ComponentLink1Description: LM2676 Datasheet; ComponentLink1URL: http://www.national.com/ds/LM/LM2676.pdf; ComponentLink2Description: LM2676 Web Page; ComponentLink2URL: http://www.national.com/pf/LM/LM2676.html; ComponentLink3Description: TA07B Package Page; ComponentLink3URL: http://www.national.com/packaging/folders/ta07b.html
footprint TA07B (TO, Thru-Hole, Vertical, Heatsink Mounted; 7 Bent Staggered Leads; Body 10.2x8.7x4.6mm, Pitch 1.27 mm)
pins: 1 SW (power), 2 IN (power), 3 CB, 4 GND (power), 5 NC, 6 FB (in), 7 ON/~{OFF} (in)

## LM2676T-12
designator U?
SIMPLE SWITCHER® High Efficiency 3A Step-Down Voltage Regulator, 7-pin TO-220; PartNumber: LM2676T-12; Manufacturer: National Semiconductor; PackageTopMarking: NSUZXYTTE#*LM2676*T-12; PowerWise: N; Published: 4-Dec-2008; DatasheetVersion: Feb-2008; PackageVersion: revC, Apr-1999; PackageReference: TA07B; Publisher: Altium Limited; PackageDescription: TO-220, Molded, .400 x .590 x .180in Body, 7 Lead, .050in Pitch, Staggered; Supplier 1: Farnell; Supplier Part Number 1: 9485767; RoHS: N; PinCount: 7; CompType: Switcher; Code_JEDEC: TO-220-AB; ComponentLink1Description: LM2676 Datasheet; ComponentLink1URL: http://www.national.com/ds/LM/LM2676.pdf; ComponentLink2Description: LM2676 Web Page; ComponentLink2URL: http://www.national.com/pf/LM/LM2676.html; ComponentLink3Description: TA07B Package Page; ComponentLink3URL: http://www.national.com/packaging/folders/ta07b.html
footprint TA07B (TO, Thru-Hole, Vertical, Heatsink Mounted; 7 Bent Staggered Leads; Body 10.2x8.7x4.6mm, Pitch 1.27 mm)
pins: 1 SW (power), 2 IN (power), 3 CB, 4 GND (power), 5 NC, 6 FB (in), 7 ON/~{OFF} (in)

## LM2676T-12/NOPB
designator U?
SIMPLE SWITCHER® High Efficiency 3A Step-Down Voltage Regulator, 7-pin TO-220, Pb-Free; PartNumber: LM2676T-12/NOPB; Manufacturer: National Semiconductor; PackageTopMarking: NSUZXYTTE#*LM2676*T-12; PowerWise: N; Published: 1-Mar-2010; DatasheetVersion: Feb-2008; PackageVersion: revC, Apr-1999; PackageReference: TA07B; Publisher: Altium Limited; PackageDescription: TO-220, Molded, .400 x .590 x .180in Body, 7 Lead, .050in Pitch, Staggered; Supplier 1: Digi-Key; Supplier Part Number 1: LM2676T-12-ND; Supplier 2: Farnell; Supplier Part Number 2: 1260754; RoHS: Y; PinCount: 7; CompType: Switcher; Code_JEDEC: TO-220-AB; ComponentLink1Description: LM2676 Datasheet; ComponentLink1URL: http://www.national.com/ds/LM/LM2676.pdf; ComponentLink2Description: LM2676 Web Page; ComponentLink2URL: http://www.national.com/pf/LM/LM2676.html; ComponentLink3Description: TA07B Package Page; ComponentLink3URL: http://www.national.com/packaging/folders/ta07b.html
footprint TA07B (TO, Thru-Hole, Vertical, Heatsink Mounted; 7 Bent Staggered Leads; Body 10.2x8.7x4.6mm, Pitch 1.27 mm)
pins: 1 SW (power), 2 IN (power), 3 CB, 4 GND (power), 5 NC, 6 FB (in), 7 ON/~{OFF} (in)

## LM2676T-ADJ
designator U?
SIMPLE SWITCHER® High Efficiency 3A Step-Down Voltage Regulator, 7-pin TO-220; PartNumber: LM2676T-ADJ; Manufacturer: National Semiconductor; PackageTopMarking: NSUZXYTTE#*LM2676*T-ADJ; PowerWise: N; Published: 4-Dec-2008; DatasheetVersion: Feb-2008; PackageVersion: revC, Apr-1999; PackageReference: TA07B; Publisher: Altium Limited; PackageDescription: TO-220, Molded, .400 x .590 x .180in Body, 7 Lead, .050in Pitch, Staggered; Supplier 1: Farnell; Supplier Part Number 1: 9485759; RoHS: N; PinCount: 7; CompType: Switcher; Code_JEDEC: TO-220-AB; ComponentLink1Description: LM2676 Datasheet; ComponentLink1URL: http://www.national.com/ds/LM/LM2676.pdf; ComponentLink2Description: LM2676 Web Page; ComponentLink2URL: http://www.national.com/pf/LM/LM2676.html; ComponentLink3Description: TA07B Package Page; ComponentLink3URL: http://www.national.com/packaging/folders/ta07b.html
footprint TA07B (TO, Thru-Hole, Vertical, Heatsink Mounted; 7 Bent Staggered Leads; Body 10.2x8.7x4.6mm, Pitch 1.27 mm)
pins: 1 SW (power), 2 IN (power), 3 CB, 4 GND (power), 5 NC, 6 FB (in), 7 ON/~{OFF} (in)

## LM2676T-ADJ/NOPB
designator U?
SIMPLE SWITCHER® High Efficiency 3A Step-Down Voltage Regulator, 7-pin TO-220, Pb-Free; PartNumber: LM2676T-ADJ/NOPB; Manufacturer: National Semiconductor; PackageTopMarking: NSUZXYTTE#*LM2676*T-ADJ; PowerWise: N; Published: 1-Mar-2010; DatasheetVersion: Feb-2008; PackageVersion: revC, Apr-1999; PackageReference: TA07B; Publisher: Altium Limited; PackageDescription: TO-220, Molded, .400 x .590 x .180in Body, 7 Lead, .050in Pitch, Staggered; Supplier 1: Digi-Key; Supplier Part Number 1: LM2676T-ADJ-ND; Supplier 2: Farnell; Supplier Part Number 2: 1469213; RoHS: Y; PinCount: 7; CompType: Switcher; Code_JEDEC: TO-220-AB; ComponentLink1Description: LM2676 Datasheet; ComponentLink1URL: http://www.national.com/ds/LM/LM2676.pdf; ComponentLink2Description: LM2676 Web Page; ComponentLink2URL: http://www.national.com/pf/LM/LM2676.html; ComponentLink3Description: TA07B Package Page; ComponentLink3URL: http://www.national.com/packaging/folders/ta07b.html
footprint TA07B (TO, Thru-Hole, Vertical, Heatsink Mounted; 7 Bent Staggered Leads; Body 10.2x8.7x4.6mm, Pitch 1.27 mm)
pins: 1 SW (power), 2 IN (power), 3 CB, 4 GND (power), 5 NC, 6 FB (in), 7 ON/~{OFF} (in)

## LM2677S-3.3
designator U?
SIMPLE SWITCHER® High Efficiency 5A Step-Down Voltage Regulator with Sync, 7-pin TO-263; PartNumber: LM2677S-3.3; Manufacturer: National Semiconductor; PackageTopMarking: NSUZXYTTE#*LM2677S*-3.3; PowerWise: N; Published: 4-Dec-2008; DatasheetVersion: Feb-2008; PackageVersion: revE, Jul-2003; PackageReference: TS7B; Publisher: Altium Limited; PackageDescription: TO-263, Molded, .400 x .390 x .180in Body, 7 Lead, .050in Pitch, Surface Mount; RoHS: N; PinCount: 7; CompType: Switcher; Code_JEDEC: MO-169-AC; ComponentLink1Description: LM2677 Datasheet; ComponentLink1URL: http://www.national.com/ds/LM/LM2677.pdf; ComponentLink2Description: LM2677 Web Page; ComponentLink2URL: http://www.national.com/pf/LM/LM2677.html; ComponentLink3Description: TS7B Package Page; ComponentLink3URL: http://www.national.com/packaging/folders/ts7b.html
footprint TS7B_N (D2-PAK, 8-Leads, Body 8.6x10.2mm, Pitch 1.27mm, Lead Span 14.1mm, IPC Medium Density)
footprint TS7B_L (D2-PAK, 8-Leads, Body 8.6x10.2mm, Pitch 1.27mm, Lead Span 14.1mm, IPC High Density)
footprint TS7B_M (D2-PAK, 8-Leads, Body 8.6x10.2mm, Pitch 1.27mm, Lead Span 14.1mm, IPC Low Density)
pins: 1 SW (power), 2 IN (power), 3 CB, 4 GND (power), 5 SYNC, 6 FB (in), 7 ON/~{OFF} (in), 8 TAB

## LM2677S-3.3/NOPB
designator U?
SIMPLE SWITCHER® High Efficiency 5A Step-Down Voltage Regulator with Sync, 7-pin TO-263, Pb-Free; PartNumber: LM2677S-3.3/NOPB; Manufacturer: National Semiconductor; PackageTopMarking: NSUZXYTTE#*LM2677S*-3.3; PowerWise: N; Published: 1-Mar-2010; DatasheetVersion: Feb-2008; PackageVersion: revE, Jul-2003; PackageReference: TS7B; Publisher: Altium Limited; PackageDescription: TO-263, Molded, .400 x .390 x .180in Body, 7 Lead, .050in Pitch, Surface Mount; Supplier 1: Digi-Key; Supplier Part Number 1: LM2677S-3.3-ND; Supplier 2: Farnell; Supplier Part Number 2: 1685626; RoHS: Y; PinCount: 7; CompType: Switcher; Code_JEDEC: MO-169-AC; ComponentLink1Description: LM2677 Datasheet; ComponentLink1URL: http://www.national.com/ds/LM/LM2677.pdf; ComponentLink2Description: LM2677 Web Page; ComponentLink2URL: http://www.national.com/pf/LM/LM2677.html; ComponentLink3Description: TS7B Package Page; ComponentLink3URL: http://www.national.com/packaging/folders/ts7b.html
footprint TS7B_N (D2-PAK, 8-Leads, Body 8.6x10.2mm, Pitch 1.27mm, Lead Span 14.1mm, IPC Medium Density)
footprint TS7B_L (D2-PAK, 8-Leads, Body 8.6x10.2mm, Pitch 1.27mm, Lead Span 14.1mm, IPC High Density)
footprint TS7B_M (D2-PAK, 8-Leads, Body 8.6x10.2mm, Pitch 1.27mm, Lead Span 14.1mm, IPC Low Density)
pins: 1 SW (power), 2 IN (power), 3 CB, 4 GND (power), 5 SYNC, 6 FB (in), 7 ON/~{OFF} (in), 8 TAB

## LM2677S-5.0
designator U?
SIMPLE SWITCHER® High Efficiency 5A Step-Down Voltage Regulator with Sync, 7-pin TO-263; PartNumber: LM2677S-5.0; Manufacturer: National Semiconductor; PackageTopMarking: NSUZXYTTE#*LM2677S*-5.0; PowerWise: N; Published: 4-Dec-2008; DatasheetVersion: Feb-2008; PackageVersion: revE, Jul-2003; PackageReference: TS7B; Publisher: Altium Limited; PackageDescription: TO-263, Molded, .400 x .390 x .180in Body, 7 Lead, .050in Pitch, Surface Mount; RoHS: N; PinCount: 7; CompType: Switcher; Code_JEDEC: MO-169-AC; ComponentLink1Description: LM2677 Datasheet; ComponentLink1URL: http://www.national.com/ds/LM/LM2677.pdf; ComponentLink2Description: LM2677 Web Page; ComponentLink2URL: http://www.national.com/pf/LM/LM2677.html; ComponentLink3Description: TS7B Package Page; ComponentLink3URL: http://www.national.com/packaging/folders/ts7b.html
footprint TS7B_N (D2-PAK, 8-Leads, Body 8.6x10.2mm, Pitch 1.27mm, Lead Span 14.1mm, IPC Medium Density)
footprint TS7B_L (D2-PAK, 8-Leads, Body 8.6x10.2mm, Pitch 1.27mm, Lead Span 14.1mm, IPC High Density)
footprint TS7B_M (D2-PAK, 8-Leads, Body 8.6x10.2mm, Pitch 1.27mm, Lead Span 14.1mm, IPC Low Density)
pins: 1 SW (power), 2 IN (power), 3 CB, 4 GND (power), 5 SYNC, 6 FB (in), 7 ON/~{OFF} (in), 8 TAB

## LM2677S-5.0/NOPB
designator U?
SIMPLE SWITCHER® High Efficiency 5A Step-Down Voltage Regulator with Sync, 7-pin TO-263, Pb-Free; PartNumber: LM2677S-5.0/NOPB; Manufacturer: National Semiconductor; PackageTopMarking: NSUZXYTTE#*LM2677S*-5.0; PowerWise: N; Published: 1-Mar-2010; DatasheetVersion: Feb-2008; PackageVersion: revE, Jul-2003; PackageReference: TS7B; Publisher: Altium Limited; PackageDescription: TO-263, Molded, .400 x .390 x .180in Body, 7 Lead, .050in Pitch, Surface Mount; Supplier 1: Digi-Key; Supplier Part Number 1: LM2677S-5.0-ND; RoHS: Y; PinCount: 7; CompType: Switcher; Code_JEDEC: MO-169-AC; ComponentLink1Description: LM2677 Datasheet; ComponentLink1URL: http://www.national.com/ds/LM/LM2677.pdf; ComponentLink2Description: LM2677 Web Page; ComponentLink2URL: http://www.national.com/pf/LM/LM2677.html; ComponentLink3Description: TS7B Package Page; ComponentLink3URL: http://www.national.com/packaging/folders/ts7b.html
footprint TS7B_N (D2-PAK, 8-Leads, Body 8.6x10.2mm, Pitch 1.27mm, Lead Span 14.1mm, IPC Medium Density)
footprint TS7B_L (D2-PAK, 8-Leads, Body 8.6x10.2mm, Pitch 1.27mm, Lead Span 14.1mm, IPC High Density)
footprint TS7B_M (D2-PAK, 8-Leads, Body 8.6x10.2mm, Pitch 1.27mm, Lead Span 14.1mm, IPC Low Density)
pins: 1 SW (power), 2 IN (power), 3 CB, 4 GND (power), 5 SYNC, 6 FB (in), 7 ON/~{OFF} (in), 8 TAB

## LM2677S-12
designator U?
SIMPLE SWITCHER® High Efficiency 5A Step-Down Voltage Regulator with Sync, 7-pin TO-263; PartNumber: LM2677S-12; Manufacturer: National Semiconductor; PackageTopMarking: NSUZXYTTE#*LM2677S*-12; PowerWise: N; Published: 4-Dec-2008; DatasheetVersion: Feb-2008; PackageVersion: revE, Jul-2003; PackageReference: TS7B; Publisher: Altium Limited; PackageDescription: TO-263, Molded, .400 x .390 x .180in Body, 7 Lead, .050in Pitch, Surface Mount; RoHS: N; PinCount: 7; CompType: Switcher; Code_JEDEC: MO-169-AC; ComponentLink1Description: LM2677 Datasheet; ComponentLink1URL: http://www.national.com/ds/LM/LM2677.pdf; ComponentLink2Description: LM2677 Web Page; ComponentLink2URL: http://www.national.com/pf/LM/LM2677.html; ComponentLink3Description: TS7B Package Page; ComponentLink3URL: http://www.national.com/packaging/folders/ts7b.html
footprint TS7B_N (D2-PAK, 8-Leads, Body 8.6x10.2mm, Pitch 1.27mm, Lead Span 14.1mm, IPC Medium Density)
footprint TS7B_L (D2-PAK, 8-Leads, Body 8.6x10.2mm, Pitch 1.27mm, Lead Span 14.1mm, IPC High Density)
footprint TS7B_M (D2-PAK, 8-Leads, Body 8.6x10.2mm, Pitch 1.27mm, Lead Span 14.1mm, IPC Low Density)
pins: 1 SW (power), 2 IN (power), 3 CB, 4 GND (power), 5 SYNC, 6 FB (in), 7 ON/~{OFF} (in), 8 TAB

## LM2677S-12/NOPB
designator U?
SIMPLE SWITCHER® High Efficiency 5A Step-Down Voltage Regulator with Sync, 7-pin TO-263, Pb-Free; PartNumber: LM2677S-12/NOPB; Manufacturer: National Semiconductor; PackageTopMarking: NSUZXYTTE#*LM2677S*-12; PowerWise: N; Published: 1-Mar-2010; DatasheetVersion: Feb-2008; PackageVersion: revE, Jul-2003; PackageReference: TS7B; Publisher: Altium Limited; PackageDescription: TO-263, Molded, .400 x .390 x .180in Body, 7 Lead, .050in Pitch, Surface Mount; Supplier 1: Digi-Key; Supplier Part Number 1: LM2677S-12-ND; Supplier 2: Farnell; Supplier Part Number 2: 1685625; RoHS: Y; PinCount: 7; CompType: Switcher; Code_JEDEC: MO-169-AC; ComponentLink1Description: LM2677 Datasheet; ComponentLink1URL: http://www.national.com/ds/LM/LM2677.pdf; ComponentLink2Description: LM2677 Web Page; ComponentLink2URL: http://www.national.com/pf/LM/LM2677.html; ComponentLink3Description: TS7B Package Page; ComponentLink3URL: http://www.national.com/packaging/folders/ts7b.html
footprint TS7B_N (D2-PAK, 8-Leads, Body 8.6x10.2mm, Pitch 1.27mm, Lead Span 14.1mm, IPC Medium Density)
footprint TS7B_L (D2-PAK, 8-Leads, Body 8.6x10.2mm, Pitch 1.27mm, Lead Span 14.1mm, IPC High Density)
footprint TS7B_M (D2-PAK, 8-Leads, Body 8.6x10.2mm, Pitch 1.27mm, Lead Span 14.1mm, IPC Low Density)
pins: 1 SW (power), 2 IN (power), 3 CB, 4 GND (power), 5 SYNC, 6 FB (in), 7 ON/~{OFF} (in), 8 TAB

## LM2677S-ADJ
designator U?
SIMPLE SWITCHER® High Efficiency 5A Step-Down Voltage Regulator with Sync, 7-pin TO-263; PartNumber: LM2677S-ADJ; Manufacturer: National Semiconductor; PackageTopMarking: NSUZXYTTE#*LM2677S*-ADJ; PowerWise: N; Published: 4-Dec-2008; DatasheetVersion: Feb-2008; PackageVersion: revE, Jul-2003; PackageReference: TS7B; Publisher: Altium Limited; PackageDescription: TO-263, Molded, .400 x .390 x .180in Body, 7 Lead, .050in Pitch, Surface Mount; Supplier 1: Farnell; Supplier Part Number 1: 7614202; RoHS: N; PinCount: 7; CompType: Switcher; Code_JEDEC: MO-169-AC; ComponentLink1Description: LM2677 Datasheet; ComponentLink1URL: http://www.national.com/ds/LM/LM2677.pdf; ComponentLink2Description: LM2677 Web Page; ComponentLink2URL: http://www.national.com/pf/LM/LM2677.html; ComponentLink3Description: TS7B Package Page; ComponentLink3URL: http://www.national.com/packaging/folders/ts7b.html
footprint TS7B_N (D2-PAK, 8-Leads, Body 8.6x10.2mm, Pitch 1.27mm, Lead Span 14.1mm, IPC Medium Density)
footprint TS7B_L (D2-PAK, 8-Leads, Body 8.6x10.2mm, Pitch 1.27mm, Lead Span 14.1mm, IPC High Density)
footprint TS7B_M (D2-PAK, 8-Leads, Body 8.6x10.2mm, Pitch 1.27mm, Lead Span 14.1mm, IPC Low Density)
pins: 1 SW (power), 2 IN (power), 3 CB, 4 GND (power), 5 SYNC, 6 FB (in), 7 ON/~{OFF} (in), 8 TAB

## LM2677S-ADJ/NOPB
designator U?
SIMPLE SWITCHER® High Efficiency 5A Step-Down Voltage Regulator with Sync, 7-pin TO-263, Pb-Free; PartNumber: LM2677S-ADJ/NOPB; Manufacturer: National Semiconductor; PackageTopMarking: NSUZXYTTE#*LM2677S*-ADJ; PowerWise: N; Published: 1-Mar-2010; DatasheetVersion: Feb-2008; PackageVersion: revE, Jul-2003; PackageReference: TS7B; Publisher: Altium Limited; PackageDescription: TO-263, Molded, .400 x .390 x .180in Body, 7 Lead, .050in Pitch, Surface Mount; Supplier 1: Digi-Key; Supplier Part Number 1: LM2677S-ADJ-ND; Supplier 2: Farnell; Supplier Part Number 2: 1564714; RoHS: Y; PinCount: 7; CompType: Switcher; Code_JEDEC: MO-169-AC; ComponentLink1Description: LM2677 Datasheet; ComponentLink1URL: http://www.national.com/ds/LM/LM2677.pdf; ComponentLink2Description: LM2677 Web Page; ComponentLink2URL: http://www.national.com/pf/LM/LM2677.html; ComponentLink3Description: TS7B Package Page; ComponentLink3URL: http://www.national.com/packaging/folders/ts7b.html
footprint TS7B_N (D2-PAK, 8-Leads, Body 8.6x10.2mm, Pitch 1.27mm, Lead Span 14.1mm, IPC Medium Density)
footprint TS7B_L (D2-PAK, 8-Leads, Body 8.6x10.2mm, Pitch 1.27mm, Lead Span 14.1mm, IPC High Density)
footprint TS7B_M (D2-PAK, 8-Leads, Body 8.6x10.2mm, Pitch 1.27mm, Lead Span 14.1mm, IPC Low Density)
pins: 1 SW (power), 2 IN (power), 3 CB, 4 GND (power), 5 SYNC, 6 FB (in), 7 ON/~{OFF} (in), 8 TAB

## LM2677SD-3.3
designator U?
SIMPLE SWITCHER® High Efficiency 5A Step-Down Voltage Regulator with Sync, 14-pin LLP; PartNumber: LM2677SD-3.3; Manufacturer: National Semiconductor; PackageTopMarking: NS*UZXYTT*S0002YB; PowerWise: N; Published: 4-Dec-2008; DatasheetVersion: Feb-2008; PackageVersion: revA, Jul-2003; PackageReference: SRC14A; Publisher: Altium Limited; PackageDescription: LLP, Plastic, Dual, 6 x 5 x 1mm Body, 14 Lead, 0.8mm Pitch, No Pullback; RoHS: Y; PinCount: 14; CompType: Switcher; ComponentLink1Description: LM2677 Datasheet; ComponentLink1URL: http://www.national.com/ds/LM/LM2677.pdf; ComponentLink2Description: LM2677 Web Page; ComponentLink2URL: http://www.national.com/pf/LM/LM2677.html; ComponentLink3Description: SRC14A Package Page; ComponentLink3URL: http://www.national.com/packaging/folders/src14a.html
footprint SRC14A (SON, 14-Leads, Body 6x5 mm, Pitch 0.8mm, NSC Recommended)
pins: 1 NC, 2 VIN (power), 3 VIN (power), 4 CB, 5 NC, 6 SYNC, 7 FB (in), 8 ON/OFF (in), 9 GND (power), 10 NC, 11 NC, 12 VSW (power), 13 VSW (power), 14 VSW (power), 15 DAP

## LM2677SD-3.3/NOPB
designator U?
SIMPLE SWITCHER® High Efficiency 5A Step-Down Voltage Regulator with Sync, 14-pin LLP, Pb-Free; PartNumber: LM2677SD-3.3/NOPB; Manufacturer: National Semiconductor; PackageTopMarking: NS*UZXYTT*S0002YB; PowerWise: N; Published: 1-Mar-2010; DatasheetVersion: Feb-2008; PackageVersion: revA, Jul-2003; PackageReference: SRC14A; Publisher: Altium Limited; PackageDescription: LLP, Plastic, Dual, 6 x 5 x 1mm Body, 14 Lead, 0.8mm Pitch, No Pullback; Supplier 1: Digi-Key; Supplier Part Number 1: LM2677SD-3.3TR-ND; Supplier 2: Digi-Key; Supplier Part Number 2: LM2677SD-3.3CT-ND; Supplier 3: Digi-Key; Supplier Part Number 3: LM2677SD-3.3DKR-ND; RoHS: Y; PinCount: 14; CompType: Switcher; ComponentLink1Description: LM2677 Datasheet; ComponentLink1URL: http://www.national.com/ds/LM/LM2677.pdf; ComponentLink2Description: LM2677 Web Page; ComponentLink2URL: http://www.national.com/pf/LM/LM2677.html; ComponentLink3Description: SRC14A Package Page; ComponentLink3URL: http://www.national.com/packaging/folders/src14a.html
footprint SRC14A (SON, 14-Leads, Body 6x5 mm, Pitch 0.8mm, NSC Recommended)
pins: 1 NC, 2 VIN (power), 3 VIN (power), 4 CB, 5 NC, 6 SYNC, 7 FB (in), 8 ON/OFF (in), 9 GND (power), 10 NC, 11 NC, 12 VSW (power), 13 VSW (power), 14 VSW (power), 15 DAP

## LM2677SD-5.0
designator U?
SIMPLE SWITCHER® High Efficiency 5A Step-Down Voltage Regulator with Sync, 14-pin LLP; PartNumber: LM2677SD-5.0; Manufacturer: National Semiconductor; PackageTopMarking: NS*UZXYTT*S0002ZB; PowerWise: N; Published: 4-Dec-2008; DatasheetVersion: Feb-2008; PackageVersion: revA, Jul-2003; PackageReference: SRC14A; Publisher: Altium Limited; PackageDescription: LLP, Plastic, Dual, 6 x 5 x 1mm Body, 14 Lead, 0.8mm Pitch, No Pullback; RoHS: N; PinCount: 14; CompType: Switcher; ComponentLink1Description: LM2677 Datasheet; ComponentLink1URL: http://www.national.com/ds/LM/LM2677.pdf; ComponentLink2Description: LM2677 Web Page; ComponentLink2URL: http://www.national.com/pf/LM/LM2677.html; ComponentLink3Description: SRC14A Package Page; ComponentLink3URL: http://www.national.com/packaging/folders/src14a.html
footprint SRC14A (SON, 14-Leads, Body 6x5 mm, Pitch 0.8mm, NSC Recommended)
pins: 1 NC, 2 VIN (power), 3 VIN (power), 4 CB, 5 NC, 6 SYNC, 7 FB (in), 8 ON/OFF (in), 9 GND (power), 10 NC, 11 NC, 12 VSW (power), 13 VSW (power), 14 VSW (power), 15 DAP

## LM2677SD-5.0/NOPB
designator U?
SIMPLE SWITCHER® High Efficiency 5A Step-Down Voltage Regulator with Sync, 14-pin LLP, Pb-Free; PartNumber: LM2677SD-5.0/NOPB; Manufacturer: National Semiconductor; PackageTopMarking: NS*UZXYTT*S0002ZB; PowerWise: N; Published: 1-Mar-2010; DatasheetVersion: Feb-2008; PackageVersion: revA, Jul-2003; PackageReference: SRC14A; Publisher: Altium Limited; PackageDescription: LLP, Plastic, Dual, 6 x 5 x 1mm Body, 14 Lead, 0.8mm Pitch, No Pullback; Supplier 1: Digi-Key; Supplier Part Number 1: LM2677SD-5.0TR-ND; Supplier 2: Digi-Key; Supplier Part Number 2: LM2677SD-5.0CT-ND; Supplier 3: Digi-Key; Supplier Part Number 3: LM2677SD-5.0DKR-ND; RoHS: Y; PinCount: 14; CompType: Switcher; ComponentLink1Description: LM2677 Datasheet; ComponentLink1URL: http://www.national.com/ds/LM/LM2677.pdf; ComponentLink2Description: LM2677 Web Page; ComponentLink2URL: http://www.national.com/pf/LM/LM2677.html; ComponentLink3Description: SRC14A Package Page; ComponentLink3URL: http://www.national.com/packaging/folders/src14a.html
footprint SRC14A (SON, 14-Leads, Body 6x5 mm, Pitch 0.8mm, NSC Recommended)
pins: 1 NC, 2 VIN (power), 3 VIN (power), 4 CB, 5 NC, 6 SYNC, 7 FB (in), 8 ON/OFF (in), 9 GND (power), 10 NC, 11 NC, 12 VSW (power), 13 VSW (power), 14 VSW (power), 15 DAP